# EAGLE library part MSP430AFE253_ADAPTER (library tmt_lib)
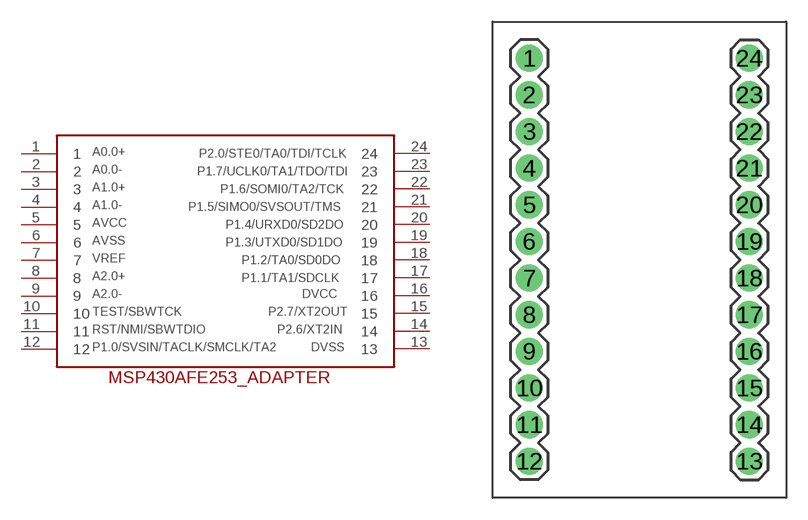
[diagram p1: symbol with the pads of MSP430AFE253_ADAPTER; footprint MSP430AFE253_ADAPTER]

Designator prefix -

## MSP430AFE253_ADAPTER  [MSP430AFE253_ADAPTER]
1  1
2  2
3  3
4  4
5  5
6  6
7  7
8  8
9  9
10  10
11  11
12  12
13  13
14  14
15  15
16  16
17  17
18  18
19  19
20  20
21  21
22  22
23  23
24  24

## Footprint MSP430AFE253_ADAPTER (pad centres in mm)
Adapter for MSP430AFE_253 Specifications: Pin count:24 Pin pitch:0.1" Example device(s): CONN_12
drill 1.016 pad 1.88: 1 2.54,30.48; 2 2.54,27.94; 3 2.54,25.4; 4 2.54,22.86; 5 2.54,20.32; 6 2.54,17.78; 7 2.54,15.24; 8 2.54,12.7; 9 2.54,10.16; 10 2.54,7.62; 11 2.54,5.08; 12 2.54,2.54; 13 17.78,2.54; 14 17.78,5.08; 15 17.78,7.62; 16 17.78,10.16; 17 17.78,12.7; 18 17.78,15.24; 19 17.78,17.78; 20 17.78,20.32; 21 17.78,22.86; 22 17.78,25.4; 23 17.78,27.94; 24 17.78,30.48